# Altium integrated library On Semiconductor Power Management Line Regulator.IntLib: 1 symbol
Pins are listed as number, name and electrical type; pins without a type are passive.

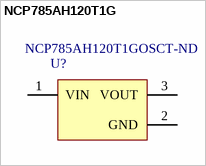
[diagram p0: symbol NCP785AH120T1G]

## NCP785AH120T1G
designator U?  Supplier Part Number 1: NCP785AH120T1GOSCT-ND
Linear Voltage Regulator IC  1 Output  10mA SOT-89-3; ComponentLink1Description: Manufacturer URL; ComponentLink2Description: Datasheet; ComponentLink3Description: Package Specification; Supplier 1: Digi-Key
footprint SOT-89-MB3_M (SOT89, 3-Leads, Body 4.5x2.4 mm, Pitch 1.5mm, Lead Span 4.1mm, IPC Low Density)
pins: 1 VIN (power), 2 GND (power), 3 VOUT (power)